# Altium integrated library Ai-Thinker.IntLib: 1 symbol
Pins are listed as number, name and electrical type; pins without a type are passive.

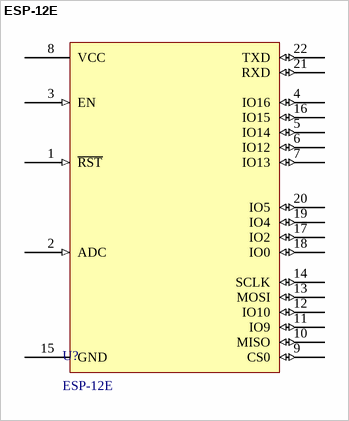
[diagram p0: symbol ESP-12E]

## ESP-12E
designator U?
ESP-12E WIFI模块 编带; Manufacturer 1: Ai-Thinker; Supplier 1: LCSC; Supplier Part Number 1: C89297; Manufacturer Part Number 1: ESP-12E; RoHS 1: No; Description 1: ESP-12E WIFI模块 编带; Stock 1: 1206; Pricing 1: 1=2.71100, 10=2.38640, 30=2.18440, 100=1.97750, 500=1.88370, 800=1.84230 (USD)
footprint ESP-12E (Wi-Fi Module)
pins: 1 ~{RST} (in) "Reset the module", 2 ADC (in) "A/D Conversion result.Input voltage range 0-1v,scope:0-1024", 3 EN (in) "Chip enable pin.Active high", 4 IO16 (io) "GPIO16; can be used to wake up the chipset from deep sleep mode.", 5 IO14 (io) "GPIO14; HSPI_CLK", 6 IO12 (io) "GPIO12; HSPI_MISO", 7 IO13 (io) "GPIO13; HSPI_MOSI; UART0_CTS", 8 VCC (power) "3.3V power supply (VDD)", 9 CS0 (io) "Chip selection", 10 MISO (io) "Salve output Main input", 11 IO9 (io) "GPIO9", 12 IO10 (io) "GBIO10", 13 MOSI (io) "Main output slave input", 14 SCLK (io) "Clock", 15 GND (power), 16 IO15 (io) "GPIO15; MTDO; HSPICS; UART0_RTS", 17 IO2 (io) "GPIO2; UART1_TXD", 18 IO0 (io) "GPIO0", 19 IO4 (io) "GPIO4", 20 IO5 (io) "GPIO5", 21 RXD (io) "UART0_RXD; GPIO3", 22 TXD (io) "UART0_TXD; GPIO1"